# EAGLE library part DPM-160 (library 1A-meinLib)
4 1/2 stelliges LCD Modul 200mV, Genauigkeit: 0.005%, 1.6 Sample/s, 30ppm/°C, 6V..14V, 1mA, Input 1pA. LASCAR
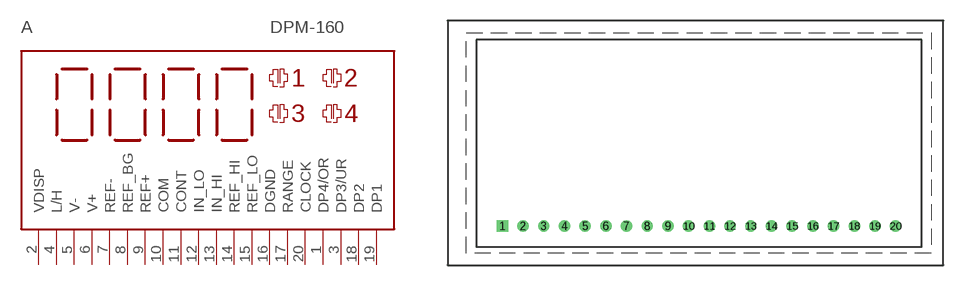
[diagram p269: symbol with the pads of DPM-160; footprint DPM-160]

Designator prefix A

## DPM-160  [DPM-160]
1  DP4/OR  in
2  VDISP  in
3  DP3/UR  in
4  L/H  hiz
5  V-  pwr
6  V+  pwr
7  REF-  in
8  REF_BG
9  REF+  out
10  COM  pas
11  CONT  in
12  IN_LO  in
13  IN_HI  in
14  REF_HI  in
15  REF_LO  in
16  DGND  pwr
17  RANGE  in
18  DP2  in
19  DP1  in
20  CLOCK  in

## Footprint DPM-160 (pad centres in mm)
4 1/2-stelliges LCD Module, DPM 160, Auschnitt 57mmx27mm, LASCAR
drill 0.9 square: 1 0,0.006
drill 0.9 round: 2 2.54,0.006; 3 5.08,0.006; 4 7.62,0.006; 5 10.16,0.006; 6 12.7,0.006; 7 15.24,0.006; 8 17.78,0.006; 9 20.32,0.006; 10 22.86,0.006; 11 25.4,0.006; 12 27.94,0.006; 13 30.48,0.006; 14 33.02,0.006; 15 35.56,0.006; 16 38.1,0.006; 17 40.64,0.006; 18 43.18,0.006; 19 45.72,0.006; 20 48.26,0.006